# Altium schematic symbol library MF_Frequency_Control.SCHLIB: 4 symbols
Pins are listed as number, name and electrical type; pins without a type are passive.

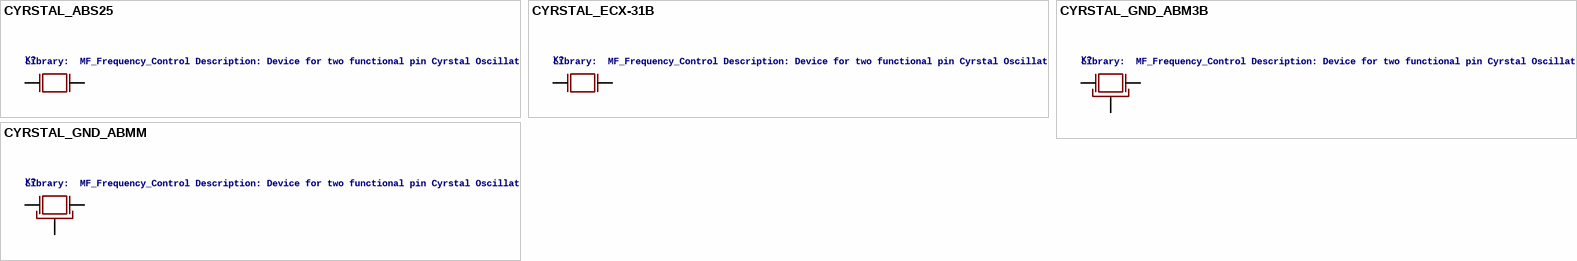
[diagram p0: symbols CYRSTAL_ABS25 to CYRSTAL_GND_ABMM]

## CYRSTAL_ABS25
designator X?, comment Library:  MF_Frequency_Control Description: Device for two functional pin Cyrstal Oscillators.
HOUSEPART: NO; GateName_1: G$1; SymbolName_1: CRYSTAL; DeviceName: _ABS25; POPULATE: 1; LibraryName: MF_Frequency_Control; DeviceSetName: CYRSTAL; URL: http://www.abracon.com/Resonators/abs25.pdf
footprint ABS25_SERIES
pins: 1 X0, 4 X1

## CYRSTAL_ECX-31B
designator X?, comment Library:  MF_Frequency_Control Description: Device for two functional pin Cyrstal Oscillators.
HOUSEPART: NO; GateName_1: G$1; SymbolName_1: CRYSTAL; DeviceName: _ECX-31B; POPULATE: 1; LibraryName: MF_Frequency_Control; DeviceSetName: CYRSTAL; URL: https://www.ecsxtal.com/store/pdf/ecx-31b.pdf
footprint ECX-31B_SERIES
pins: P$1 X0, P$2 X1

## CYRSTAL_GND_ABM3B
designator X?, comment Library:  MF_Frequency_Control Description: Device for two functional pin Cyrstal Oscillators and a ground.
HOUSEPART: NO; GateName_1: G$1; SymbolName_1: CRYSTAL_GND; DeviceName: _ABM3B; DeviceSetName: CYRSTAL_GND; POPULATE: 1; LibraryName: MF_Frequency_Control; URL: http://www.abracon.com/Resonators/abm3b.pdf
footprint 5MMX3.2MM
pins: P$1 X0, P$2 P$4 GND, P$3 X1

## CYRSTAL_GND_ABMM
designator X?, comment Library:  MF_Frequency_Control Description: Device for two functional pin Cyrstal Oscillators and a ground.
HOUSEPART: NO; GateName_1: G$1; SymbolName_1: CRYSTAL_GND; DeviceName: _ABMM; DeviceSetName: CYRSTAL_GND; POPULATE: 1; LibraryName: MF_Frequency_Control; URL: http://www.abracon.com/Resonators/ABMM.pdf
footprint 7MMX5MM
pins: P$1 X0, P$2 P$4 GND, P$3 X1